# EAGLE library part DS1307 (library FansElectronics-RTC)
DS1307 Real Time Clock (RTC), dengan tegangan dari baterai 3V. Komunikasi melalui I2C
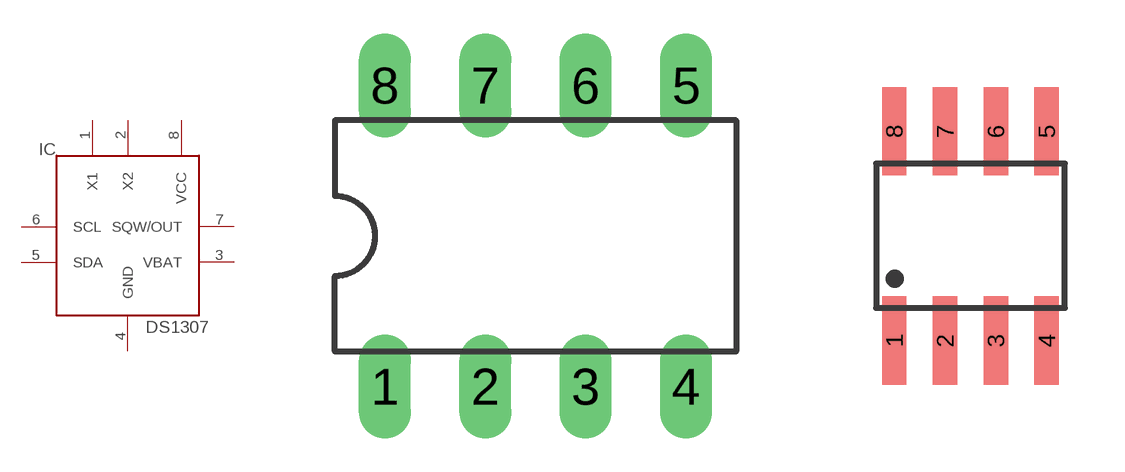
[diagram p0: symbol with the pads of DIL8; footprints DIL8, SOIC8]

Designator prefix IC

## DS1307-DIL  [DIL8]
1  X1  pas
2  X2  pas
3  VBAT  pwr
4  GND  pwr
5  SDA
6  SCL
7  SQW/OUT
8  VCC  pwr

## DS1307-SMD  [SOIC8]
Pads as for DIL8

## Footprint DIL8 (pad centres in mm)
Dual In Line Package
drill 0.813 long: 1 -3.81,-3.81; 2 -1.27,-3.81; 3 1.27,-3.81; 4 3.81,-3.81; 5 3.81,3.81; 6 1.27,3.81; 7 -1.27,3.81; 8 -3.81,3.81

## Footprint SOIC8 (pad centres in mm)
smd 0.61 x 2.21: 1 -1.905,-2.616; 2 -0.635,-2.616; 3 0.635,-2.616; 4 1.905,-2.616; 5 1.905,2.616; 6 0.635,2.616; 7 -0.635,2.616; 8 -1.905,2.616